# EAGLE library part MCP6N11 (library rover12)
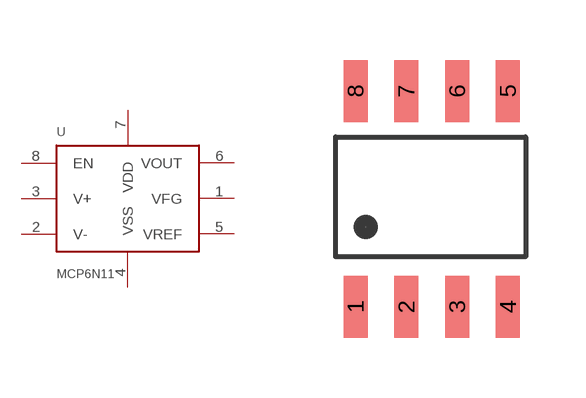
[diagram p6: symbol with the pads of SOIC-8; footprint SOIC-8]

Designator prefix U

## MCP6N11  [SOIC-8]
1  VFG
2  V-
3  V+
4  VSS  pwr
5  VREF
6  VOUT
7  VDD  pwr
8  EN

## Footprint SOIC-8 (pad centres in mm)
smd 0.6 x 1.55: 1 0,0; 2 1.27,0; 3 2.54,0; 4 3.81,0; 5 3.81,5.4; 6 2.54,5.4; 7 1.27,5.4; 8 0,5.4